# Altium schematic symbol library Cable.SchLib: 19 symbols
Pins are listed as number, name and electrical type; pins without a type are passive.

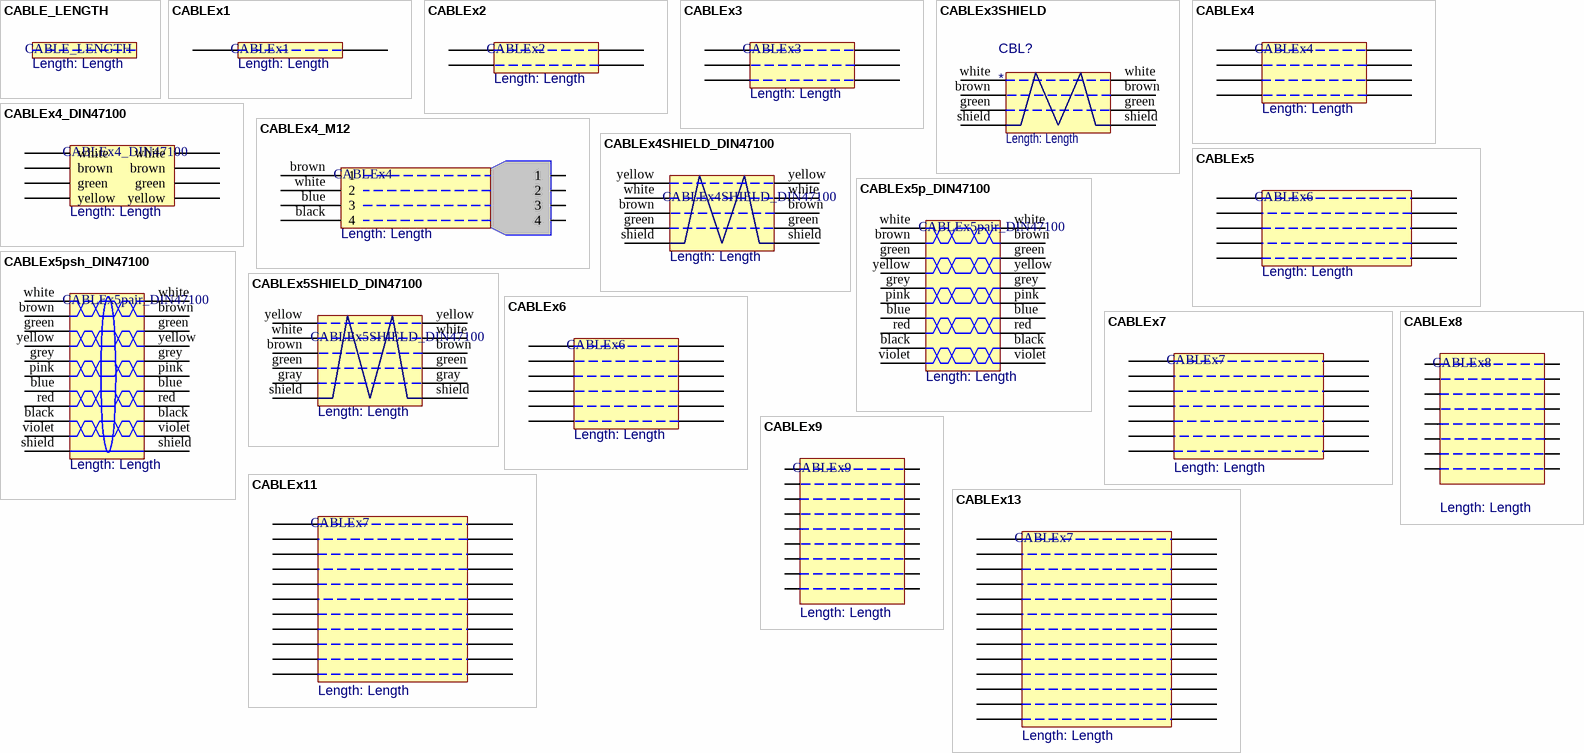
[diagram p0: symbols CABLE_LENGTH to CABLEx13]

## CABLE_LENGTH
designator CABLE?  (mechanical)
Value: CABLE_LENGTH; Length: Length

## CABLEx1
designator CABLE?  (mechanical)
Value: CABLEx1; Length: Length
pins: 1, 12

## CABLEx2
designator CABLE?  (mechanical)
Value: CABLEx2; Length: Length
pins: 1, 2, 11, 12

## CABLEx3
designator CABLE?  (mechanical)
Value: CABLEx3; Length: Length
pins: 1, 2, 3, 10, 11, 12

## CABLEx3SHIELD
designator CBL?
Value: *; Length: Length
pins: brown, brown, green, green, shield, shield, white, white

## CABLEx4
designator CABLE?  (mechanical)
Value: CABLEx4; Length: Length
pins: 1, 2, 3, 4, 9, 10, 11, 12

## CABLEx4_DIN47100
designator CABLE?  (mechanical)
Value: CABLEx4_DIN47100; Length: Length
pins: 1 white, 2 brown, 3 green, 4 yellow, 9 yellow, 10 green, 11 brown, 12 white

## CABLEx4_M12
designator CABLE?, comment CABLEx4  (mechanical)
Value: CABLEx4; Length: Length
pins: 1, 2, 3, 4, black 4, blue 3, brown 1, white 2

## CABLEx4SHIELD_DIN47100
designator CABLE?  (mechanical)
Value: CABLEx4SHIELD_DIN47100; Length: Length
pins: brown, brown, green, green, shield, shield, white, white, yellow, yellow

## CABLEx5
designator CABLE?, comment CABLEx6  (mechanical)
Value: CABLEx6; Length: Length
pins: 1, 2, 3, 4, 5, 8, 9, 10, 11, 12

## CABLEx5p_DIN47100
designator CABLE?, comment CABLEx5pair_DIN47100  (mechanical)
Value: CABLEx5pair_DIN47100; Length: Length
pins: black, black, blue, blue, brown, brown, green, green, grey, grey, pink, pink, red, red, violet, violet, white, white, yellow, yellow

## CABLEx5psh_DIN47100
designator CABLE?, comment CABLEx5pair_DIN47100  (mechanical)
Value: CABLEx5pair_DIN47100; Length: Length
pins: black, black, blue, blue, brown, brown, green, green, grey, grey, pink, pink, red, red, shield, shield, violet, violet, white, white, yellow, yellow

## CABLEx5SHIELD_DIN47100
designator CABLE?  (mechanical)
Value: CABLEx5SHIELD_DIN47100; Length: Length
pins: brown, brown, gray green, gray green, green, green, shield, shield, white, white, yellow, yellow

## CABLEx6
designator CABLE?  (mechanical)
Value: CABLEx6; Length: Length
pins: 1, 2, 3, 4, 5, 6, 7, 8, 9, 10, 11, 12

## CABLEx7
designator CABLE?  (mechanical)
Value: CABLEx7; Length: Length
pins: 1, 2, 3, 4, 5, 6, 7, 8, 9, 10, 11, 12, 13, 14

## CABLEx8
designator CABLE?  (mechanical)
Value: CABLEx8; Length: Length
pins: 1, 2, 3, 4, 5, 6, 7, 8, 15, 16, 17, 18, 20, 21, 22, 91 19

## CABLEx9
designator CABLE?  (mechanical)
Value: CABLEx9; Length: Length
pins: 1, 2, 3, 4, 5, 6, 7, 8, 8, 15, 15, 16, 17, 18, 20, 21, 22, 91 19

## CABLEx11
designator CABLE?, comment CABLEx7  (mechanical)
Value: CABLEx7; Length: Length
pins: 1, 2, 3, 4, 5, 6, 7, 8, 9, 10, 11, 12, 13, 14, 15, 16, 17, 18, 20, 21, 22, 91 19

## CABLEx13
designator CABLE?, comment CABLEx7  (mechanical)
Value: CABLEx7; Length: Length
pins: 1, 2, 3, 4, 5, 6, 7, 8, 9, 10, 11, 12, 13, 14, 15, 16, 17, 18, 19, 20, 21, 22, 23, 24, 25, 26